# EAGLE library part CHAPMAN (library VisionChips)
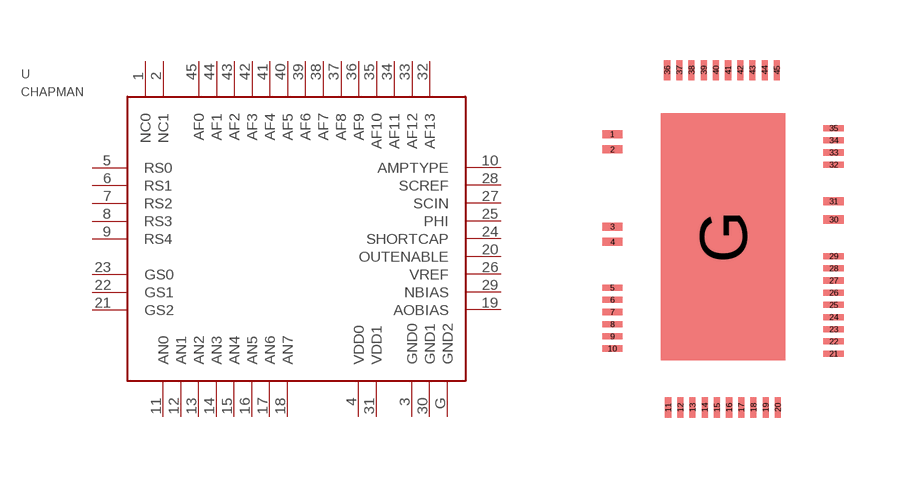
[diagram p0: symbol with the pads of CHAPMAN; footprint CHAPMAN]

Designator prefix -

## CHAPMAN  [CHAPMAN]
1  NC0
2  NC1
3  GND0  pwr
4  VDD0  pwr
5  RS0
6  RS1
7  RS2
8  RS3
9  RS4
10  AMPTYPE
11  AN0
12  AN1
13  AN2
14  AN3
15  AN4
16  AN5
17  AN6
18  AN7
19  AOBIAS
20  OUTENABLE
21  GS2
22  GS1
23  GS0
24  SHORTCAP
25  PHI
26  VREF
27  SCIN
28  SCREF
29  NBIAS
30  GND1  pwr
31  VDD1  pwr
32  AF13
33  AF12
34  AF11
35  AF10
36  AF9
37  AF8
38  AF7
39  AF6
40  AF5
41  AF4
42  AF3
43  AF2
44  AF1
45  AF0
G  GND2  pwr

## Footprint CHAPMAN (pad centres in mm)
smd 0.508 x 0.203: 1 -2.54,1.245; 2 -2.54,0.864; 3 -2.54,-1.067; 4 -2.54,-1.448; 30 2.997,-0.889; 31 2.997,-0.432
smd 0.508 x 0.152: 5 -2.54,-2.591; 6 -2.54,-2.896; 7 -2.54,-3.2; 8 -2.54,-3.505; 9 -2.54,-3.81; 10 -2.54,-4.115; 21 2.997,-4.242; 22 2.997,-3.937; 23 2.997,-3.632; 24 2.997,-3.327; 25 2.997,-3.023; 26 2.997,-2.718; 27 2.997,-2.413; 28 2.997,-2.108; 29 2.997,-1.803; 32 2.997,0.483; 33 2.997,0.787; 34 2.997,1.092; 35 2.997,1.397
smd 0.152 x 0.508: 11 -1.143,-5.588; 12 -0.838,-5.588; 13 -0.533,-5.588; 14 -0.229,-5.588; 15 0.076,-5.588; 16 0.381,-5.588; 17 0.686,-5.588; 18 0.991,-5.588; 19 1.295,-5.588; 20 1.6,-5.588; 36 -1.168,2.845; 37 -0.864,2.845; 38 -0.559,2.845; 39 -0.254,2.845; 40 0.051,2.845; 41 0.356,2.845; 42 0.66,2.845; 43 0.965,2.845; 44 1.27,2.845; 45 1.575,2.845
smd 3.105 x 6.185: G 0.229,-1.321